# Altium schematic symbol library HCPL-063A.SchLib: 1 symbol
Pins are listed as number, name and electrical type; pins without a type are passive.

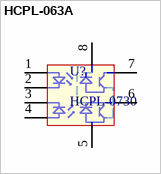
[diagram p0: symbol HCPL-063A]

## HCPL-063A
designator U?, comment HCPL-0730
pins: 1, 2, 3, 4, 5, 6, 7, 8